# Altium schematic symbol library ionis.SchLib: 54 symbols
Pins are listed as number, name and electrical type; pins without a type are passive.

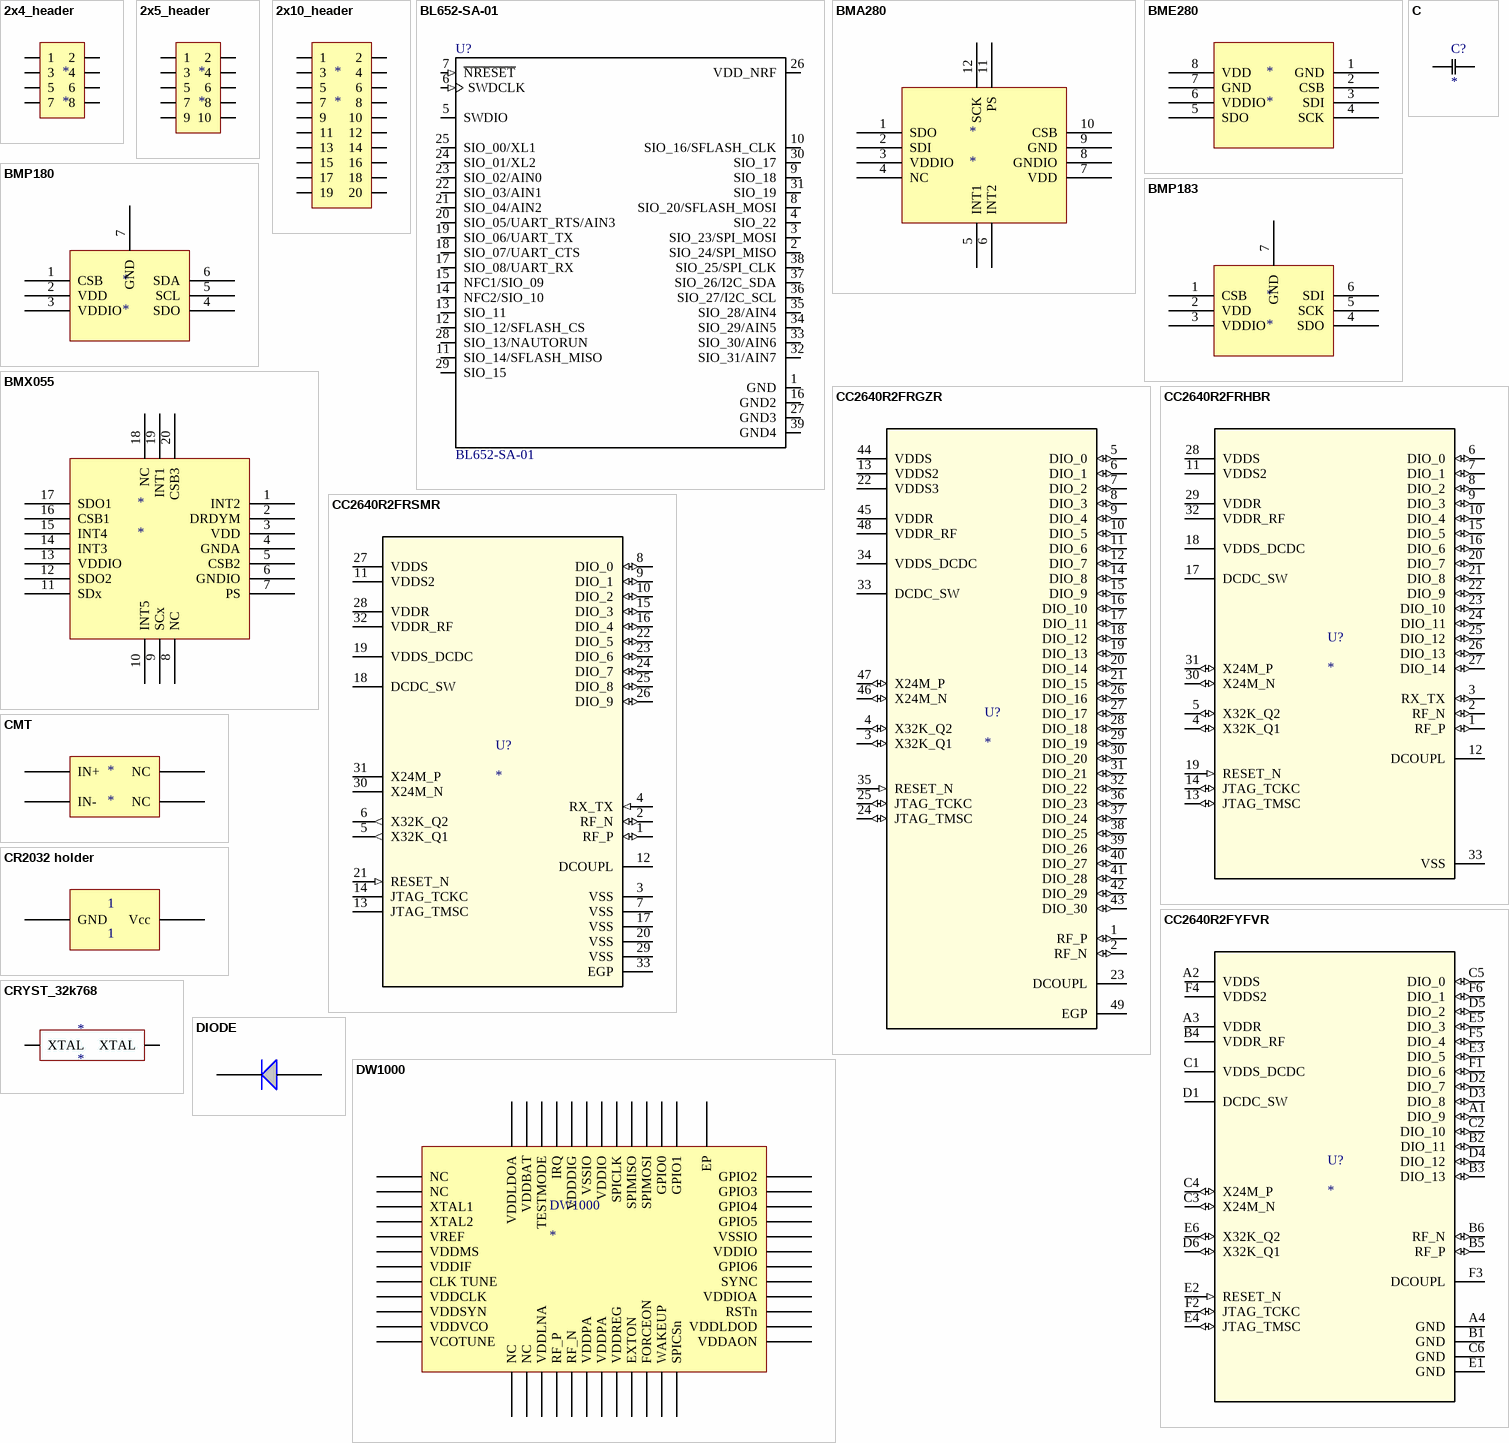
[diagram p0: symbols 2x4_header to DW1000]

## 2x4_header
designator *
footprint Header 4x2 1.27mm
pins: 1, 2, 3, 4, 5, 6, 7, 8

## 2x5_header
designator *
footprint Header 5x2 1.27mm-pins
footprint Header 5x2 1.27mm
pins: 1, 2, 3, 4, 5, 6, 7, 8, 9, 10

## 2x10_header
designator *
footprint Header 2x10 1.27mm socket
footprint Header 2x10 1.27mm plug
pins: 1, 2, 3, 4, 5, 6, 7, 8, 9, 10, 11, 12, 13, 14, 15, 16, 17, 18, 19, 20

## BL652-SA-01
designator U?
Bluetooth v4.2 Module with NFC (Integrated Antenna); MF: Laird; Price: 9.43 USD; MP: BL652-SA-01; Package: SMD-39 Laird; SnapEDA_Link: https://www.snapeda.com/symbols-footprints/BL652-SA-01/Laird/view-part/?ref=snap; Availability: Warning; Value: *
footprint XCVR_BL652-SA-01
pins: 1 GND (power), 2 SIO_24/SPI_MISO (io), 3 SIO_23/SPI_MOSI (io), 4 SIO_22 (io), 5 SWDIO (io), 6 SWDCLK (in), 7 ~{NRESET} (in), 8 SIO_20/SFLASH_MOSI (io), 9 SIO_18 (io), 10 SIO_16/SFLASH_CLK (io), 11 SIO_14/SFLASH_MISO (io), 12 SIO_12/SFLASH_CS (io), 13 SIO_11 (io), 14 NFC2/SIO_10 (io), 15 NFC1/SIO_09 (io), 16 GND2 (power), 17 SIO_08/UART_RX (io), 18 SIO_07/UART_CTS (io), 19 SIO_06/UART_TX (io), 20 SIO_05/UART_RTS/AIN3 (io), 21 SIO_04/AIN2 (io), 22 SIO_03/AIN1 (io), 23 SIO_02/AIN0 (io), 24 SIO_01/XL2 (io), 25 SIO_00/XL1 (io), 26 VDD_NRF (power), 27 GND3 (power), 28 SIO_13/NAUTORUN (io), 29 SIO_15 (io), 30 SIO_17 (io), 31 SIO_19 (io), 32 SIO_31/AIN7 (io), 33 SIO_30/AIN6 (io), 34 SIO_29/AIN5 (io), 35 SIO_28/AIN4 (io), 36 SIO_27/I2C_SCL (io), 37 SIO_26/I2C_SDA (io), 38 SIO_25/SPI_CLK (io), 39 GND4 (power)

## BMA280
designator *
footprint BMA280
pins: 1 SDO, 2 SDI, 3 VDDIO, 4 NC, 5 INT1, 6 INT2, 7 VDD, 8 GNDIO, 9 GND, 10 CSB, 11 PS, 12 SCK

## BME280
designator *
footprint BME280
pins: 1 GND, 2 CSB, 3 SDI, 4 SCK, 5 SDO, 6 VDDIO, 7 GND, 8 VDD

## BMP180
designator *
footprint BMP180
pins: 1 CSB, 2 VDD, 3 VDDIO, 4 SDO, 5 SCL, 6 SDA, 7 GND

## BMP183
designator *
footprint BMP183
pins: 1 CSB, 2 VDD, 3 VDDIO, 4 SDO, 5 SCK, 6 SDI, 7 GND

## BMX055
designator *
footprint BMX055
pins: 1 INT2, 2 DRDYM, 3 VDD, 4 GNDA, 5 CSB2, 6 GNDIO, 7 PS, 8 NC, 9 SCx, 10 INT5, 11 SDx, 12 SDO2, 13 VDDIO, 14 INT3, 15 INT4, 16 CSB1, 17 SDO1, 18 NC, 19 INT1, 20 CSB3

## C
designator C?
Capacitor
footprint 0201
footprint 0402
footprint 0603
footprint 0805
footprint 1206
pins: 1, 2

## CC2640R2FRGZR
designator U?
Imported; PartNumber: CC2640R2FRGZR; Manufacturer: Texas Instruments; RefDes: RefDes; TYPE: TYPE; Value: Value
footprint RGZ0048A
pins: 1 RF_P (io), 2 RF_N (io), 3 X32K_Q1 (io), 4 X32K_Q2 (io), 5 DIO_0 (io), 6 DIO_1 (io), 7 DIO_2 (io), 8 DIO_3 (io), 9 DIO_4 (io), 10 DIO_5 (io), 11 DIO_6 (io), 12 DIO_7 (io), 13 VDDS2 (power), 14 DIO_8 (io), 15 DIO_9 (io), 16 DIO_10 (io), 17 DIO_11 (io), 18 DIO_12 (io), 19 DIO_13 (io), 20 DIO_14 (io), 21 DIO_15 (io), 22 VDDS3 (power), 23 DCOUPL (power), 24 JTAG_TMSC (io), 25 JTAG_TCKC (io), 26 DIO_16 (io), 27 DIO_17 (io), 28 DIO_18 (io), 29 DIO_19 (io), 30 DIO_20 (io), 31 DIO_21 (io), 32 DIO_22 (io), 33 DCDC_SW (power), 34 VDDS_DCDC (power), 35 RESET_N (in), 36 DIO_23 (io), 37 DIO_24 (io), 38 DIO_25 (io), 39 DIO_26 (io), 40 DIO_27 (io), 41 DIO_28 (io), 42 DIO_29 (io), 43 DIO_30 (io), 44 VDDS (power), 45 VDDR (power), 46 X24M_N (io), 47 X24M_P (io), 48 VDDR_RF (power), 49 EGP (power)

## CC2640R2FRHBR
designator U?
Imported; PartNumber: CC2640R2FRHBR; Manufacturer: Texas Instruments; RefDes: RefDes; TYPE: TYPE; Value: Value
footprint RHB0032E
footprint RHB0032E_NV
pins: 1 RF_P (io), 2 RF_N (io), 3 RX_TX (io), 4 X32K_Q1 (io), 5 X32K_Q2 (io), 6 DIO_0 (io), 7 DIO_1 (io), 8 DIO_2 (io), 9 DIO_3 (io), 10 DIO_4 (io), 11 VDDS2 (power), 12 DCOUPL (power), 13 JTAG_TMSC (io), 14 JTAG_TCKC (io), 15 DIO_5 (io), 16 DIO_6 (io), 17 DCDC_SW (power), 18 VDDS_DCDC (power), 19 RESET_N (in), 20 DIO_7 (io), 21 DIO_8 (io), 22 DIO_9 (io), 23 DIO_10 (io), 24 DIO_11 (io), 25 DIO_12 (io), 26 DIO_13 (io), 27 DIO_14 (io), 28 VDDS (power), 29 VDDR (power), 30 X24M_N (io), 31 X24M_P (io), 32 VDDR_RF (power), 33 VSS (power)

## CC2640R2FRSMR
designator U?
Imported; PartNumber: CC2640R2FRSMR; Manufacturer: Texas Instruments; RefDes: RefDes; TYPE: TYPE; Value: Value
footprint RSM0032B
pins: 1 RF_P (io), 2 RF_N (io), 3 VSS (power), 4 RX_TX (in), 5 X32K_Q1 (out), 6 X32K_Q2 (out), 7 VSS (power), 8 DIO_0 (io), 9 DIO_1 (io), 10 DIO_2 (io), 11 VDDS2 (power), 12 DCOUPL, 13 JTAG_TMSC, 14 JTAG_TCKC, 15 DIO_3 (io), 16 DIO_4 (io), 17 VSS (power), 18 DCDC_SW (power), 19 VDDS_DCDC (power), 20 VSS (power), 21 RESET_N (in), 22 DIO_5 (io), 23 DIO_6 (io), 24 DIO_7 (io), 25 DIO_8 (io), 26 DIO_9 (io), 27 VDDS (power), 28 VDDR (power), 29 VSS (power), 30 X24M_N, 31 X24M_P, 32 VDDR_RF (power), 33 EGP (power)

## CC2640R2FYFVR
designator U?
Imported; PartNumber: CC2640R2FYFVR; Manufacturer: Texas Instruments; RefDes: RefDes; TYPE: TYPE; Value: Value
footprint YFV0034ALAL
pins: A1 DIO_9 (io), A2 VDDS (power), A3 VDDR (power), A4 GND (power), B1 GND (power), B2 DIO_11 (io), B3 DIO_13 (io), B4 VDDR_RF (power), B5 RF_P (io), B6 RF_N (io), C1 VDDS_DCDC (power), C2 DIO_10 (io), C3 X24M_N (io), C4 X24M_P (io), C5 DIO_0 (io), C6 GND (power), D1 DCDC_SW (power), D2 DIO_7 (io), D3 DIO_8 (io), D4 DIO_12 (io), D5 DIO_2 (io), D6 X32K_Q1 (io), E1 GND (power), E2 RESET_N (in), E3 DIO_5 (io), E4 JTAG_TMSC (io), E5 DIO_3 (io), E6 X32K_Q2 (io), F1 DIO_6 (io), F2 JTAG_TCKC (io), F3 DCOUPL (power), F4 VDDS2 (power), F5 DIO_4 (io), F6 DIO_1 (io)

## CMT
designator *
footprint CMT-1411R-SMT (sound transducer)
footprint CMT-8540S-SMT (sound transducer)
pins: 1 IN-, 2 IN+, 3 NC, 4 NC

## CR2032 holder
designator 1, comment 1
footprint CR2032 SMT holder
pins: 1 GND, 2 Vcc

## CRYST_32k768
designator *
footprint CRYST 32.768 kHz
pins: 1 XTAL, 2 XTAL

## DIODE
designator 1
footprint 0603
footprint 0402
pins: 1, 2

## DW1000
designator DW1000
footprint Quad48 dw
pins: 1 NC, 2 NC, 3 XTAL1, 4 XTAL2, 5 VREF, 6 VDDMS, 7 VDDIF, 8 CLK TUNE, 9 VDDCLK, 10 VDDSYN, 11 VDDVCO, 12 VCOTUNE, 13 NC, 14 NC, 15 VDDLNA, 16 RF_P, 17 RF_N, 18 VDDPA, 19 VDDPA, 20 VDDREG, 21 EXTON, 22 FORCEON, 23 WAKEUP, 24 SPICSn, 25 VDDAON, 26 VDDLDOD, 27 RSTn, 28 VDDIOA, 29 SYNC, 30 GPIO6, 31 VDDIO, 32 VSSIO, 33 GPIO5, 34 GPIO4, 35 GPIO3, 36 GPIO2, 37 GPIO1, 38 GPIO0, 39 SPIMOSI, 40 SPIMISO, 41 SPICLK, 42 VDDIO, 43 VSSIO, 44 VDDDIG, 45 IRQ, 46 TESTMODE, 47 VDDBAT, 48 VDDLDOA, EP

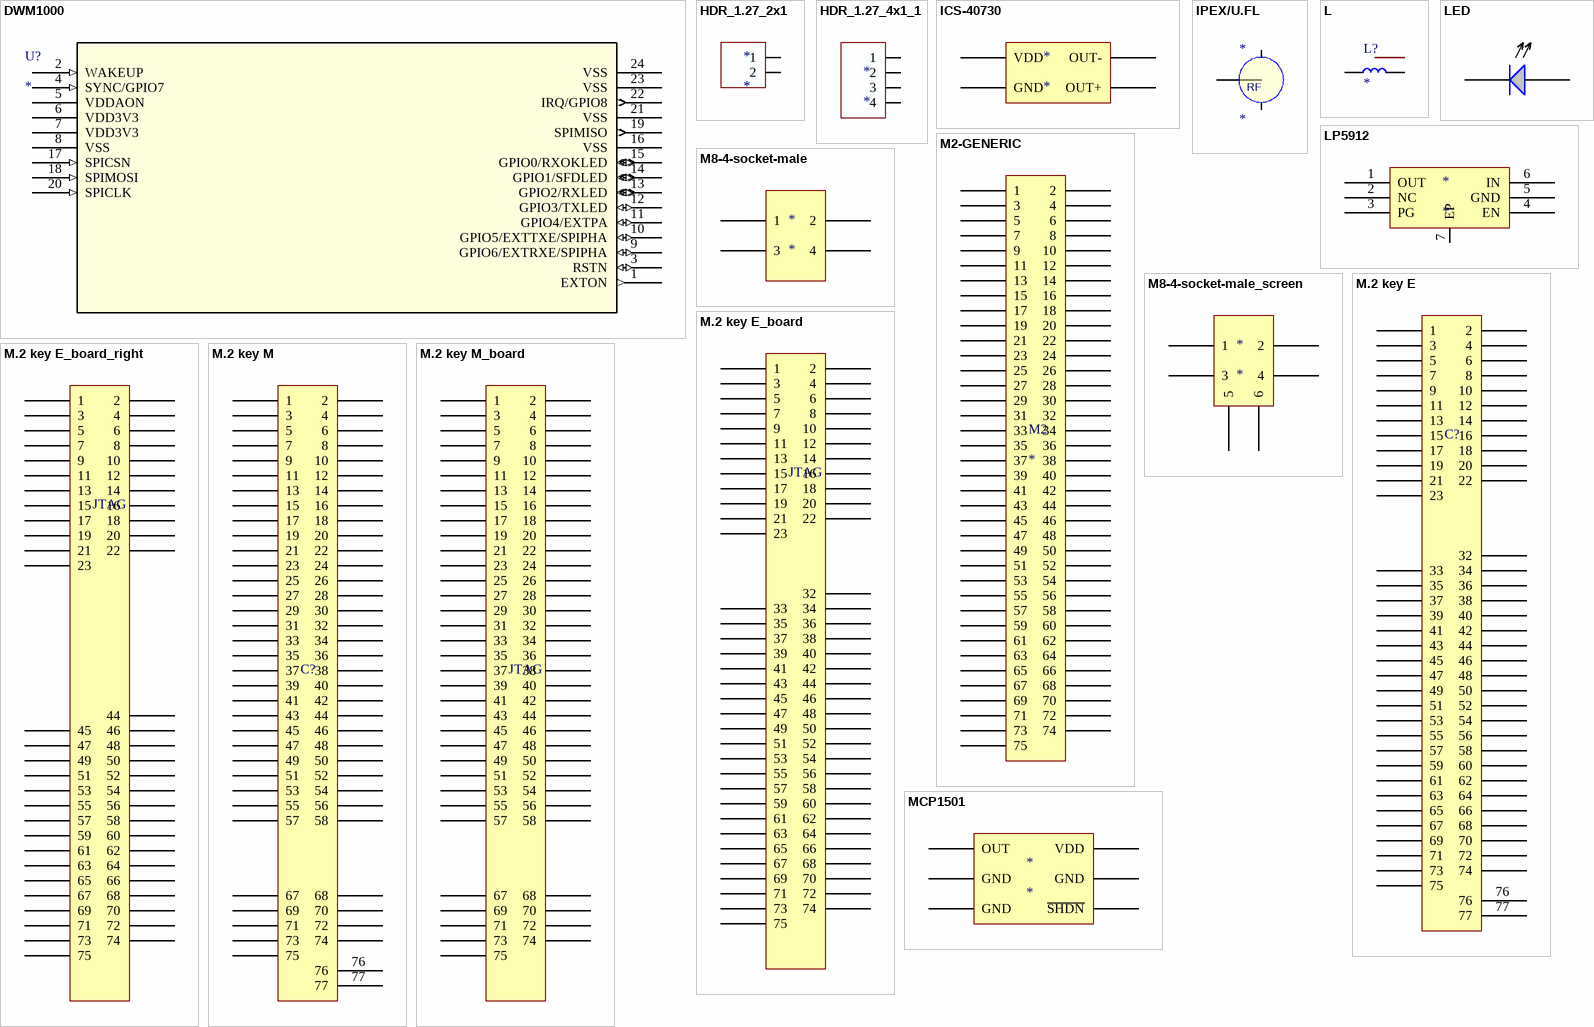
[diagram p1: symbols DWM1000 to MCP1501]

## DWM1000
designator U?
Imported; Manufacturer_Part_Number: DWM1000; Vendor: DecaWave; Built_By: EMA_UL_Team; Value: Value; Type: Type; RefDes: RefDes
footprint DWM1000
pins: 1 EXTON (out), 2 WAKEUP (in), 3 RSTN (io), 4 SYNC/GPIO7 (in), 5 VDDAON (power), 6 VDD3V3 (power), 7 VDD3V3 (power), 8 VSS (power), 9 GPIO6/EXTRXE/SPIPHA (io), 10 GPIO5/EXTTXE/SPIPHA (io), 11 GPIO4/EXTPA (io), 12 GPIO3/TXLED (io), 13 GPIO2/RXLED (io), 14 GPIO1/SFDLED (io), 15 GPIO0/RXOKLED (io), 16 VSS (power), 17 SPICSN (in), 18 SPIMOSI (in), 19 SPIMISO (out), 20 SPICLK (in), 21 VSS (power), 22 IRQ/GPIO8 (out), 23 VSS (power), 24 VSS (power)

## HDR_1.27_2x1
designator *
footprint HDR 1.27mm 1x2 (header)
pins: 1, 2

## HDR_1.27_4x1_1
designator *
footprint HDR 1.27mm 1x4 (header)
pins: 1, 2, 3, 4

## ICS-40730
designator *
footprint ICS-40730
pins: 1 VDD, 2 OUT-, 3 OUT+, 4 GND

## IPEX/U.FL
designator *
SMA PCB Edge Receptacle
footprint IPEX
pins: 1 RF, 2, 3

## L
designator L?
Inductor
footprint 1206
footprint 0201
footprint 0805
footprint 0603
footprint 0402
pins: 1, 2

## LED
designator 1
footprint 0603
footprint 0402
pins: 1, 2

## LP5912
designator *
footprint WSON-6
pins: 1 OUT, 2 NC, 3 PG, 4 EN, 5 GND, 6 IN, 7 EP

## M2-GENERIC
designator M2
CONN M2 GENERIC
footprint M2 GEN
pins: 1, 2, 3, 4, 5, 6, 7, 8, 9, 10, 11, 12, 13, 14, 15, 16, 17, 18, 19, 20, 21, 22, 23, 24, 25, 26, 27, 28, 29, 30, 31, 32, 33, 34, 35, 36, 37, 38, 39, 40, 41, 42, 43, 44, 45, 46, 47, 48, 49, 50, 51, 52, 53, 54, 55, 56, 57, 58, 59, 60, 61, 62, 63, 64, 65, 66, 67, 68, 69, 70, 71, 72, 73, 74, 75

## M8-4-socket-male
designator *
footprint M8-4-socket-male
pins: 1, 2, 3, 4

## M8-4-socket-male_screen
designator *
footprint M8-4-socket-male - SCREEN
footprint M8-4-socket-male - SCREEN - 2
pins: 1, 2, 3, 4, 5, 6

## M.2 key E
designator C?  (value not drawn)
CONN M2 TYPE E
footprint M.2 key E
pins: 1, 2, 3, 4, 5, 6, 7, 8, 9, 10, 11, 12, 13, 14, 15, 16, 17, 18, 19, 20, 21, 22, 23, 32, 33, 34, 35, 36, 37, 38, 39, 40, 41, 42, 43, 44, 45, 46, 47, 48, 49, 50, 51, 52, 53, 54, 55, 56, 57, 58, 59, 60, 61, 62, 63, 64, 65, 66, 67, 68, 69, 70, 71, 72, 73, 74, 75, 76, 77

## M.2 key E_board
designator JTAG  (value not drawn)
CONN M2 TYPE E
footprint M.2 key E board
pins: 1, 2, 3, 4, 5, 6, 7, 8, 9, 10, 11, 12, 13, 14, 15, 16, 17, 18, 19, 20, 21, 22, 23, 32, 33, 34, 35, 36, 37, 38, 39, 40, 41, 42, 43, 44, 45, 46, 47, 48, 49, 50, 51, 52, 53, 54, 55, 56, 57, 58, 59, 60, 61, 62, 63, 64, 65, 66, 67, 68, 69, 70, 71, 72, 73, 74, 75

## M.2 key E_board_right
designator JTAG  (value not drawn)
CONN M2 TYPE E
footprint M.2 key E board right
pins: 1, 2, 3, 4, 5, 6, 7, 8, 9, 10, 11, 12, 13, 14, 15, 16, 17, 18, 19, 20, 21, 22, 23, 44, 45, 46, 47, 48, 49, 50, 51, 52, 53, 54, 55, 56, 57, 58, 59, 60, 61, 62, 63, 64, 65, 66, 67, 68, 69, 70, 71, 72, 73, 74, 75

## M.2 key M
designator C?  (value not drawn)
CONN M2 TYPE M
footprint M.2 key M
pins: 1, 2, 3, 4, 5, 6, 7, 8, 9, 10, 11, 12, 13, 14, 15, 16, 17, 18, 19, 20, 21, 22, 23, 24, 25, 26, 27, 28, 29, 30, 31, 32, 33, 34, 35, 36, 37, 38, 39, 40, 41, 42, 43, 44, 45, 46, 47, 48, 49, 50, 51, 52, 53, 54, 55, 56, 57, 58, 67, 68, 69, 70, 71, 72, 73, 74, 75, 76, 77

## M.2 key M_board
designator JTAG  (value not drawn)
CONN M2 TYPE M
footprint M.2 key M - board
pins: 1, 2, 3, 4, 5, 6, 7, 8, 9, 10, 11, 12, 13, 14, 15, 16, 17, 18, 19, 20, 21, 22, 23, 24, 25, 26, 27, 28, 29, 30, 31, 32, 33, 34, 35, 36, 37, 38, 39, 40, 41, 42, 43, 44, 45, 46, 47, 48, 49, 50, 51, 52, 53, 54, 55, 56, 57, 58, 67, 68, 69, 70, 71, 72, 73, 74, 75

## MCP1501
designator *
footprint SOT-23-6
pins: 1 OUT, 2 GND, 3 GND, 4 ~{SHDN}, 5 GND, 6 VDD

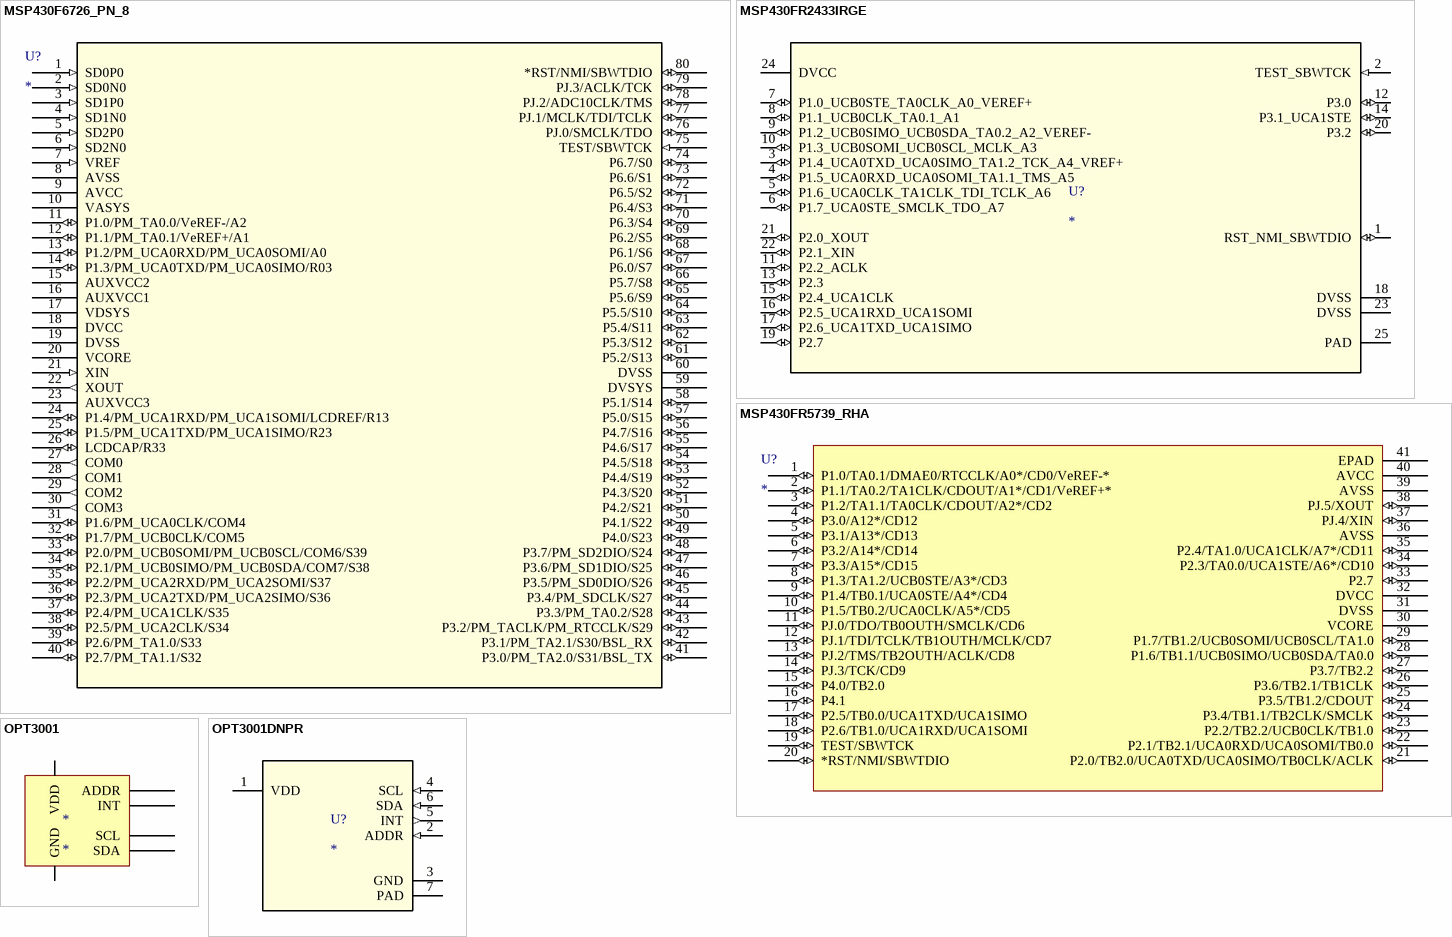
[diagram p2: symbols MSP430F6726_PN_8 to OPT3001DNPR]

## MSP430F6726_PN_8
designator U?
Imported; Manufacturer_Part_Number: msp430f6726_pn_80; GENERIC_PART_NUMBER: MSP430F6726; Vendor: Texas Instruments; PACKAGE_DESIGNATOR: PN; PIN_COUNT: 80; FAMILY_NAME: 6 Series with LCD; INDUSTRY_STD_PKG_TYPE: LQFP; Manufacturer: Texas Instruments; Datasheet_URL: http://www.ti.com/lit/gpn/MSP430F6726; Value: Value; Type: Type; RefDes: RefDes
footprint PN80
footprint PN80-L
footprint PN80-M
pins: 1 SD0P0 (in), 2 SD0N0 (in), 3 SD1P0 (in), 4 SD1N0 (in), 5 SD2P0 (in), 6 SD2N0 (in), 7 VREF (in), 8 AVSS (power), 9 AVCC (power), 10 VASYS (power), 11 P1.0/PM_TA0.0/VeREF-/A2 (io), 12 P1.1/PM_TA0.1/VeREF+/A1 (io), 13 P1.2/PM_UCA0RXD/PM_UCA0SOMI/A0 (io), 14 P1.3/PM_UCA0TXD/PM_UCA0SIMO/R03 (io), 15 AUXVCC2 (power), 16 AUXVCC1 (power), 17 VDSYS (power), 18 DVCC (power), 19 DVSS (power), 20 VCORE (power), 21 XIN (in), 22 XOUT (out), 23 AUXVCC3 (power), 24 P1.4/PM_UCA1RXD/PM_UCA1SOMI/LCDREF/R13 (io), 25 P1.5/PM_UCA1TXD/PM_UCA1SIMO/R23 (io), 26 LCDCAP/R33 (io), 27 COM0 (out), 28 COM1 (out), 29 COM2 (out), 30 COM3 (out), 31 P1.6/PM_UCA0CLK/COM4 (io), 32 P1.7/PM_UCB0CLK/COM5 (io), 33 P2.0/PM_UCB0SOMI/PM_UCB0SCL/COM6/S39 (io), 34 P2.1/PM_UCB0SIMO/PM_UCB0SDA/COM7/S38 (io), 35 P2.2/PM_UCA2RXD/PM_UCA2SOMI/S37 (io), 36 P2.3/PM_UCA2TXD/PM_UCA2SIMO/S36 (io), 37 P2.4/PM_UCA1CLK/S35 (io), 38 P2.5/PM_UCA2CLK/S34 (io), 39 P2.6/PM_TA1.0/S33 (io), 40 P2.7/PM_TA1.1/S32 (io), 41 P3.0/PM_TA2.0/S31/BSL_TX (io), 42 P3.1/PM_TA2.1/S30/BSL_RX (io), 43 P3.2/PM_TACLK/PM_RTCCLK/S29 (io), 44 P3.3/PM_TA0.2/S28 (io), 45 P3.4/PM_SDCLK/S27 (io), 46 P3.5/PM_SD0DIO/S26 (io), 47 P3.6/PM_SD1DIO/S25 (io), 48 P3.7/PM_SD2DIO/S24 (io), 49 P4.0/S23 (io), 50 P4.1/S22 (io), 51 P4.2/S21 (io), 52 P4.3/S20 (io), 53 P4.4/S19 (io), 54 P4.5/S18 (io), 55 P4.6/S17 (io), 56 P4.7/S16 (io), 57 P5.0/S15 (io), 58 P5.1/S14 (io), 59 DVSYS (power), 60 DVSS (power), 61 P5.2/S13 (io), 62 P5.3/S12 (io), 63 P5.4/S11 (io), 64 P5.5/S10 (io), 65 P5.6/S9 (io), 66 P5.7/S8 (io), 67 P6.0/S7 (io), 68 P6.1/S6 (io), 69 P6.2/S5 (io), 70 P6.3/S4 (io), 71 P6.4/S3 (io), 72 P6.5/S2 (io), 73 P6.6/S1 (io), 74 P6.7/S0 (io), 75 TEST/SBWTCK (in), 76 PJ.0/SMCLK/TDO (io), 77 PJ.1/MCLK/TDI/TCLK (io), 78 PJ.2/ADC10CLK/TMS (io), 79 PJ.3/ACLK/TCK (io), 80 *RST/NMI/SBWTDIO (io)

## MSP430FR2433IRGE
designator U?
Imported; PartNumber: MSP430FR2433IRGER; Alternate_PartNumber: MSP430FR2433IRGET; Manufacturer: Texas Instruments; CompType: IC; PIN_COUNT: 25; Application_BuildNumber: *; PackageReference: RGE0024G; MountType: SMT; RefDes: RefDes; TYPE: TYPE; Value: Value
footprint RGE0024G
footprint RGE0024G_NV
pins: 1 RST_NMI_SBWTDIO (io), 2 TEST_SBWTCK (in), 3 P1.4_UCA0TXD_UCA0SIMO_TA1.2_TCK_A4_VREF+ (io), 4 P1.5_UCA0RXD_UCA0SOMI_TA1.1_TMS_A5 (io), 5 P1.6_UCA0CLK_TA1CLK_TDI_TCLK_A6 (io), 6 P1.7_UCA0STE_SMCLK_TDO_A7 (io), 7 P1.0_UCB0STE_TA0CLK_A0_VEREF+ (io), 8 P1.1_UCB0CLK_TA0.1_A1 (io), 9 P1.2_UCB0SIMO_UCB0SDA_TA0.2_A2_VEREF- (io), 10 P1.3_UCB0SOMI_UCB0SCL_MCLK_A3 (io), 11 P2.2_ACLK (io), 12 P3.0 (io), 13 P2.3 (io), 14 P3.1_UCA1STE (io), 15 P2.4_UCA1CLK (io), 16 P2.5_UCA1RXD_UCA1SOMI (io), 17 P2.6_UCA1TXD_UCA1SIMO (io), 18 DVSS (power), 19 P2.7 (io), 20 P3.2 (io), 21 P2.0_XOUT (io), 22 P2.1_XIN (io), 23 DVSS (power), 24 DVCC (power), 25 PAD (power)

## MSP430FR5739_RHA
designator U?
Imported; Manufacturer_Part_Number: msp430fr5739_rha_40; GENERIC_PART_NUMBER: MSP430FR5739; Vendor: Texas Instruments; PACKAGE_DESIGNATOR: RHA; PIN_COUNT: 40; FAMILY_NAME: FRAM Series; INDUSTRY_STD_PKG_TYPE: VQFN; Datasheet URL: http://www.ti.com/lit/gpn/MSP430FR5739; Manufacturer: Texas Instruments; RefDes: RefDes; Type: DEV; Value: Value
footprint MSP430FR5739
pins: 1 P1.0/TA0.1/DMAE0/RTCCLK/A0*/CD0/VeREF-* (io), 2 P1.1/TA0.2/TA1CLK/CDOUT/A1*/CD1/VeREF+* (io), 3 P1.2/TA1.1/TA0CLK/CDOUT/A2*/CD2 (io), 4 P3.0/A12*/CD12 (io), 5 P3.1/A13*/CD13 (io), 6 P3.2/A14*/CD14 (io), 7 P3.3/A15*/CD15 (io), 8 P1.3/TA1.2/UCB0STE/A3*/CD3 (io), 9 P1.4/TB0.1/UCA0STE/A4*/CD4 (io), 10 P1.5/TB0.2/UCA0CLK/A5*/CD5 (io), 11 PJ.0/TDO/TB0OUTH/SMCLK/CD6 (io), 12 PJ.1/TDI/TCLK/TB1OUTH/MCLK/CD7 (io), 13 PJ.2/TMS/TB2OUTH/ACLK/CD8 (io), 14 PJ.3/TCK/CD9 (io), 15 P4.0/TB2.0 (io), 16 P4.1 (io), 17 P2.5/TB0.0/UCA1TXD/UCA1SIMO (io), 18 P2.6/TB1.0/UCA1RXD/UCA1SOMI (io), 19 TEST/SBWTCK (io), 20 *RST/NMI/SBWTDIO (io), 21 P2.0/TB2.0/UCA0TXD/UCA0SIMO/TB0CLK/ACLK (io), 22 P2.1/TB2.1/UCA0RXD/UCA0SOMI/TB0.0 (io), 23 P2.2/TB2.2/UCB0CLK/TB1.0 (io), 24 P3.4/TB1.1/TB2CLK/SMCLK (io), 25 P3.5/TB1.2/CDOUT (io), 26 P3.6/TB2.1/TB1CLK (io), 27 P3.7/TB2.2 (io), 28 P1.6/TB1.1/UCB0SIMO/UCB0SDA/TA0.0 (io), 29 P1.7/TB1.2/UCB0SOMI/UCB0SCL/TA1.0 (io), 30 VCORE (power), 31 DVSS (power), 32 DVCC (power), 33 P2.7 (io), 34 P2.3/TA0.0/UCA1STE/A6*/CD10 (io), 35 P2.4/TA1.0/UCA1CLK/A7*/CD11 (io), 36 AVSS (power), 37 PJ.4/XIN (io), 38 PJ.5/XOUT (io), 39 AVSS (power), 40 AVCC (power), 41 EPAD

## OPT3001
designator *
footprint OPT3001
pins: 1 VDD, 2 ADDR, 3 GND, 4 SCL, 5 INT, 6 SDA

## OPT3001DNPR
designator U?
Imported; PartNumber: OPT3001DNP; Manufacturer: Texas Instruments; CompType: IC; PIN_COUNT: 7; Application_BuildNumber: *; PackageReference: DNP0006A; MountType: SMT; RoHS: Y; RefDes: RefDes; TYPE: TYPE; Value: Value
footprint DNP0006A
pins: 1 VDD (power), 2 ADDR (in), 3 GND (power), 4 SCL (in), 5 INT (out), 6 SDA (in), 7 PAD

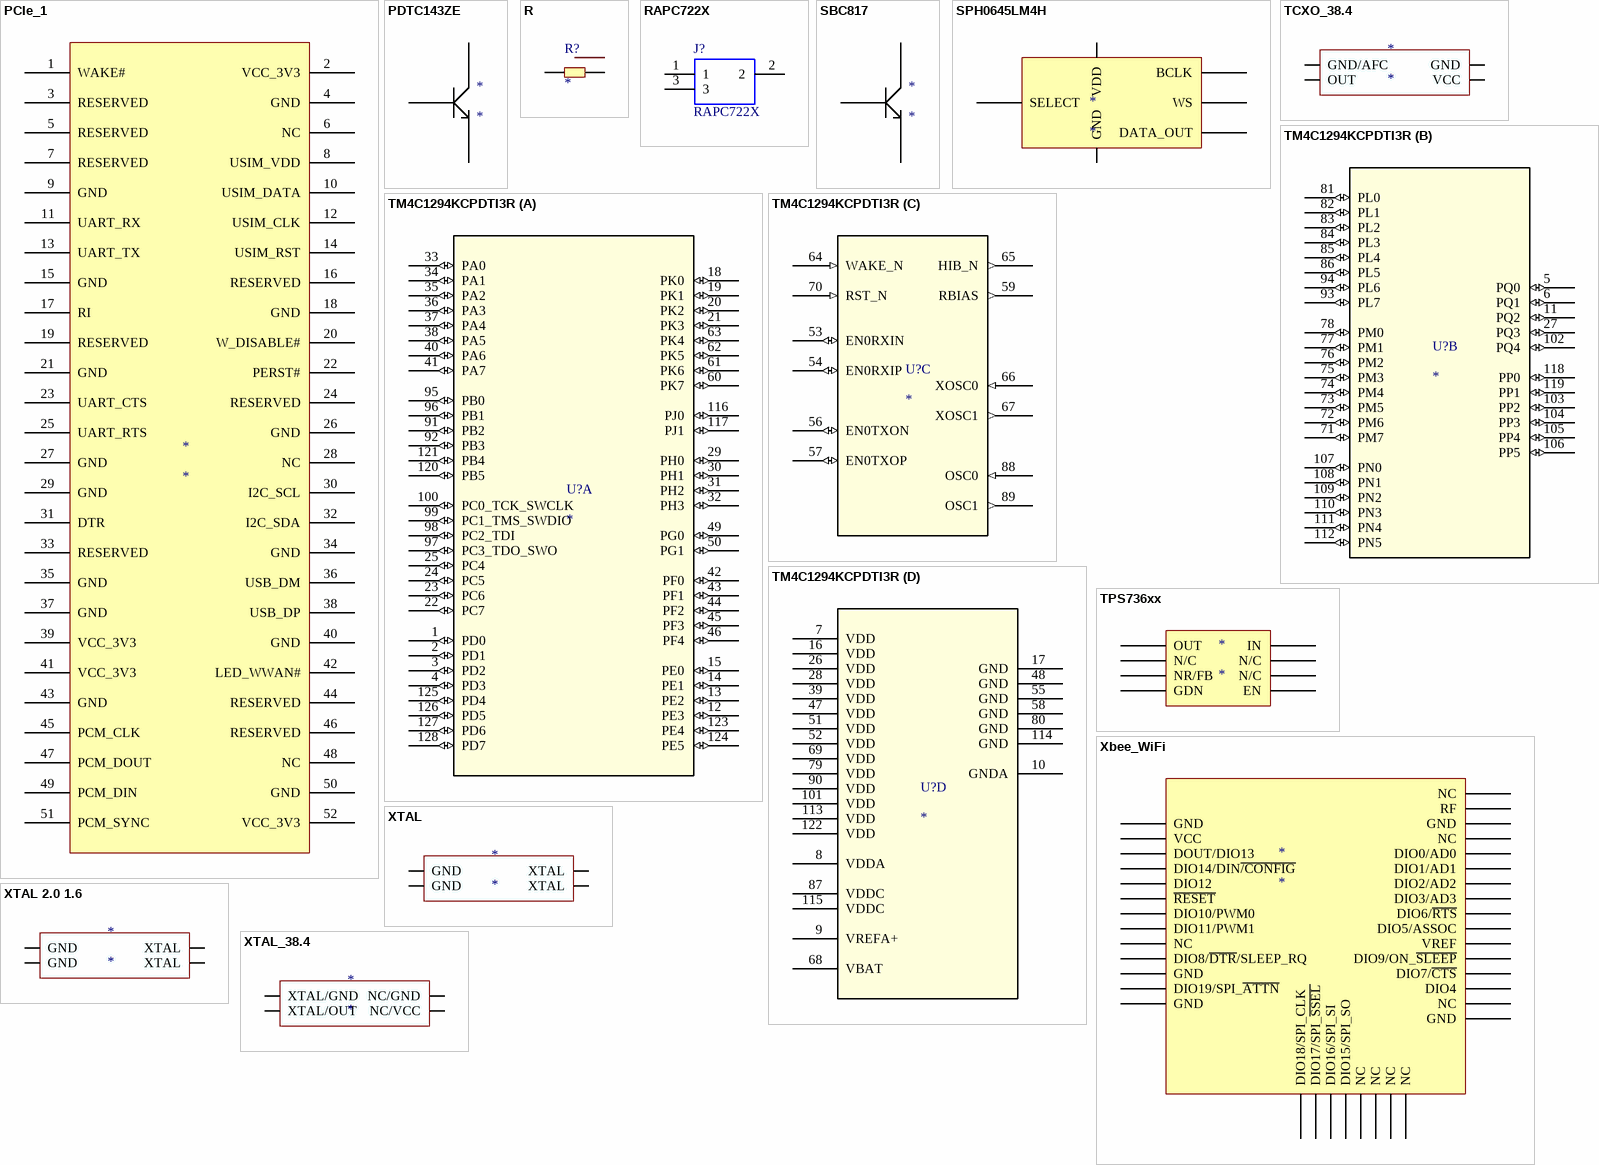
[diagram p3: symbols PCIe_1 to XTAL_38.4]

## PCIe_1
designator *
footprint PCIe_1
pins: 1 WAKE#, 2 VCC_3V3, 3 RESERVED, 4 GND, 5 RESERVED, 6 NC, 7 RESERVED, 8 USIM_VDD, 9 GND, 10 USIM_DATA, 11 UART_RX, 12 USIM_CLK, 13 UART_TX, 14 USIM_RST, 15 GND, 16 RESERVED, 17 RI, 18 GND, 19 RESERVED, 20 W_DISABLE#, 21 GND, 22 PERST#, 23 UART_CTS, 24 RESERVED, 25 UART_RTS, 26 GND, 27 GND, 28 NC, 29 GND, 30 I2C_SCL, 31 DTR, 32 I2C_SDA, 33 RESERVED, 34 GND, 35 GND, 36 USB_DM, 37 GND, 38 USB_DP, 39 VCC_3V3, 40 GND, 41 VCC_3V3, 42 LED_WWAN#, 43 GND, 44 RESERVED, 45 PCM_CLK, 46 RESERVED, 47 PCM_DOUT, 48 NC, 49 PCM_DIN, 50 GND, 51 PCM_SYNC, 52 VCC_3V3

## PDTC143ZE
designator *
footprint SOT-23-3
footprint SOT416
pins: 1 C, 2 B, 3 E

## R
designator R?
Resistor
footprint 0402
footprint 0603
footprint 0805
footprint 1206
pins: 1, 2

## RAPC722X
designator J?
DC Powered Thermoplastic Jack Connector Right Angle DC Power Plug Rated At 5A, PCB Mount, length 14.5mm, Nickel Plate; Manufacturer_Name: Switchcraft; Allied_Number: 70214249; Manufacturer_Part_Number: RAPC722X; RS Part Number: 8786787; RS Price/Stock: http://uk.rs-online.com/web/p/products/8786787; Allied Price/Stock: http://www.alliedelec.com/switchcraft-rapc722x/70214249/; Arrow Part Number: RAPC722X; Arrow Price/Stock: https://www.arrow.com/en/products/rapc722x/switchcraft; Datasheet Link: http://www.switchcraft.com/Drawings/rapc722x_cd.pdf
footprint RAPC722X
pins: 1, 2, 3

## SBC817
designator *
footprint SOT-23-3
pins: 1 B, 2 E, 3 C

## SPH0645LM4H
designator *
footprint SPH0645LM4H (microphone)
pins: 1 WS, 2 SELECT, 3 GND, 4 BCLK, 5 VDD, 6 DATA_OUT

## TCXO_38.4
designator *
footprint TCXO_2.0x1.6
pins: 1 GND/AFC, 2 GND, 3 OUT, 4 VCC

## TM4C1294KCPDTI3R
designator U?
Imported; PartNumber: TM4C1294KCPDTI3R; Alternate_PartNumber: TM4C1294KCPDTI3; Manufacturer: Texas Instruments; CompType: IC; PIN_COUNT: 128; Application_BuildNumber: *; PackageReference: PDT0128A; MountType: SMT; RoHS: Y; RefDes: RefDes; TYPE: TYPE; Value: Value
footprint PDT0128A_N
part A pins: 1 PD0 (io), 2 PD1 (io), 3 PD2 (io), 4 PD3 (io), 12 PE3 (io), 13 PE2 (io), 14 PE1 (io), 15 PE0 (io), 18 PK0 (io), 19 PK1 (io), 20 PK2 (io), 21 PK3 (io), 22 PC7 (io), 23 PC6 (io), 24 PC5 (io), 25 PC4 (io), 29 PH0 (io), 30 PH1 (io), 31 PH2 (io), 32 PH3 (io), 33 PA0 (io), 34 PA1 (io), 35 PA2 (io), 36 PA3 (io), 37 PA4 (io), 38 PA5 (io), 40 PA6 (io), 41 PA7 (io), 42 PF0 (io), 43 PF1 (io), 44 PF2 (io), 45 PF3 (io), 46 PF4 (io), 49 PG0 (io), 50 PG1 (io), 60 PK7 (io), 61 PK6 (io), 62 PK5 (io), 63 PK4 (io), 91 PB2 (io), 92 PB3 (io), 95 PB0 (io), 96 PB1 (io), 97 PC3_TDO_SWO (io), 98 PC2_TDI (io), 99 PC1_TMS_SWDIO (io), 100 PC0_TCK_SWCLK (io), 116 PJ0 (io), 117 PJ1 (io), 120 PB5 (io), 121 PB4 (io), 123 PE4 (io), 124 PE5 (io), 125 PD4 (io), 126 PD5 (io), 127 PD6 (io), 128 PD7 (io)
part B pins: 5 PQ0 (io), 6 PQ1 (io), 11 PQ2 (io), 27 PQ3 (io), 71 PM7 (io), 72 PM6 (io), 73 PM5 (io), 74 PM4 (io), 75 PM3 (io), 76 PM2 (io), 77 PM1 (io), 78 PM0 (io), 81 PL0 (io), 82 PL1 (io), 83 PL2 (io), 84 PL3 (io), 85 PL4 (io), 86 PL5 (io), 93 PL7 (io), 94 PL6 (io), 102 PQ4 (io), 103 PP2 (io), 104 PP3 (io), 105 PP4 (io), 106 PP5 (io), 107 PN0 (io), 108 PN1 (io), 109 PN2 (io), 110 PN3 (io), 111 PN4 (io), 112 PN5 (io), 118 PP0 (io), 119 PP1 (io)
part C pins: 53 EN0RXIN (io), 54 EN0RXIP (io), 56 EN0TXON (io), 57 EN0TXOP (io), 59 RBIAS (out), 64 WAKE_N (in), 65 HIB_N (out), 66 XOSC0 (in), 67 XOSC1 (out), 70 RST_N (in), 88 OSC0 (in), 89 OSC1 (out)
part D pins: 7 VDD (power), 8 VDDA (power), 9 VREFA+ (power), 10 GNDA (power), 16 VDD (power), 17 GND (power), 26 VDD (power), 28 VDD (power), 39 VDD (power), 47 VDD (power), 48 GND (power), 51 VDD (power), 52 VDD (power), 55 GND (power), 58 GND (power), 68 VBAT (power), 69 VDD (power), 79 VDD (power), 80 GND (power), 87 VDDC (power), 90 VDD (power), 101 VDD (power), 113 VDD (power), 114 GND (power), 115 VDDC (power), 122 VDD (power)

## TPS736xx
designator *
footprint TPS736xx
footprint TPS736xx
pins: 1 OUT, 2 N/C, 3 NR/FB, 4 GDN, 5 EN, 6 N/C, 7 N/C, 8 IN

## Xbee_WiFi
designator *
footprint Xbee
pins: 1 GND, 2 VCC, 3 DOUT/DIO13, 4 DIO14/DIN~{/CONFIG}, 5 DIO12, 6 ~{RESET}, 7 DIO10/PWM0, 8 DIO11/PWM1, 9 NC, 10 DIO8/~{DTR}/SLEEP_RQ, 11 GND, 12 DIO19/SPI_~{ATTN}, 13 GND, 14 DIO18/SPI_CLK, 15 DIO17/SPI_~{SSEL}, 16 DIO16/SPI_SI, 17 DIO15/SPI_SO, 18 NC, 19 NC, 20 NC, 21 NC, 22 GND, 23 NC, 24 DIO4, 25 DIO7/~{CTS}, 26 DIO9/ON_~{SLEEP}, 27 VREF, 28 DIO5/ASSOC, 29 DIO6/~{RTS}, 30 DIO3/AD3, 31 DIO2/AD2, 32 DIO1/AD1, 33 DIO0/AD0, 34 NC, 35 GND, 36 RF, 37 NC

## XTAL
designator *
footprint XTAL 2.0 1.6
footprint XTAL 2.5 2.0
pins: 1 XTAL, 2 GND, 3 XTAL, 4 GND

## XTAL 2.0 1.6
designator *
footprint XTAL 2.0 1.6
pins: 1 XTAL, 2 GND, 3 XTAL, 4 GND

## XTAL_38.4
designator *
footprint CRYST_3.2x2.5
pins: 1 XTAL/GND, 2 NC/GND, 3 XTAL/OUT, 4 NC/VCC